# EAGLE library part SN65HVD1050D (library steves)
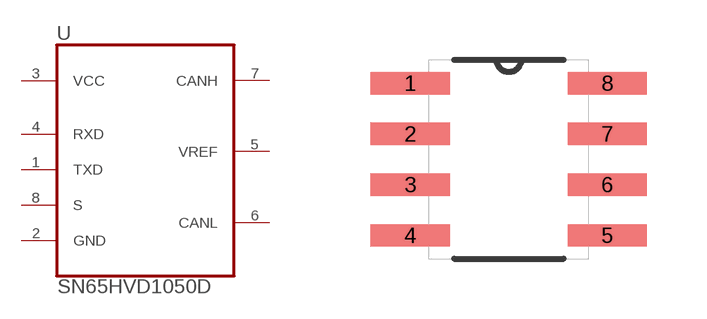
[diagram p35: symbol with the pads of SOIC8; footprint SOIC8]

Designator prefix -

## SN65HVD1050D  [SOIC8]
1  TXD  in
2  GND  pas
3  VCC  pwr
4  RXD  in
5  VREF  in
6  CANL  out
7  CANH  out
8  S  in

## Footprint SOIC8 (pad centres in mm)
smd 1.981 x 0.559: 1 -2.464,3.175; 2 -2.464,1.905; 3 -2.464,0.635; 4 -2.464,-0.635; 5 2.464,-0.635; 6 2.464,0.635; 7 2.464,1.905; 8 2.464,3.175